# EAGLE library part 24LC32A (library MCE_CircuitosIntegrados)
24LC32A 32-Kbit I2C Serial EEPROM
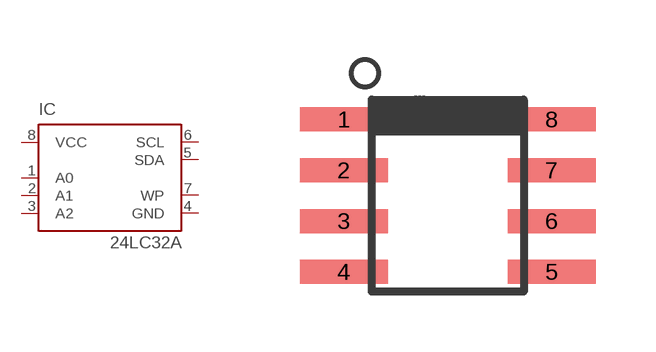
[diagram p21: symbol with the pads of SOIC8; footprint SOIC8]

Designator prefix IC

## 24LC32A  [SOIC8]
1  A0  in
2  A1  in
3  A2  in
4  GND  pwr
5  SDA
6  SCL  in
7  WP  in
8  VCC  pwr

## Footprint SOIC8 (pad centres in mm)
Small Outline Narrow Plastic Gull Wing 150-mil body, package type SN
smd 2.2 x 0.6: 1 -2.6,1.905; 2 -2.6,0.635; 3 -2.6,-0.635; 4 -2.6,-1.905; 5 2.6,-1.905; 6 2.6,-0.635; 7 2.6,0.635; 8 2.6,1.905